# EAGLE library part BEAGLEBOARD (library GTA04b7)
BeagleBoard expansion connectors J3, J4 and J5
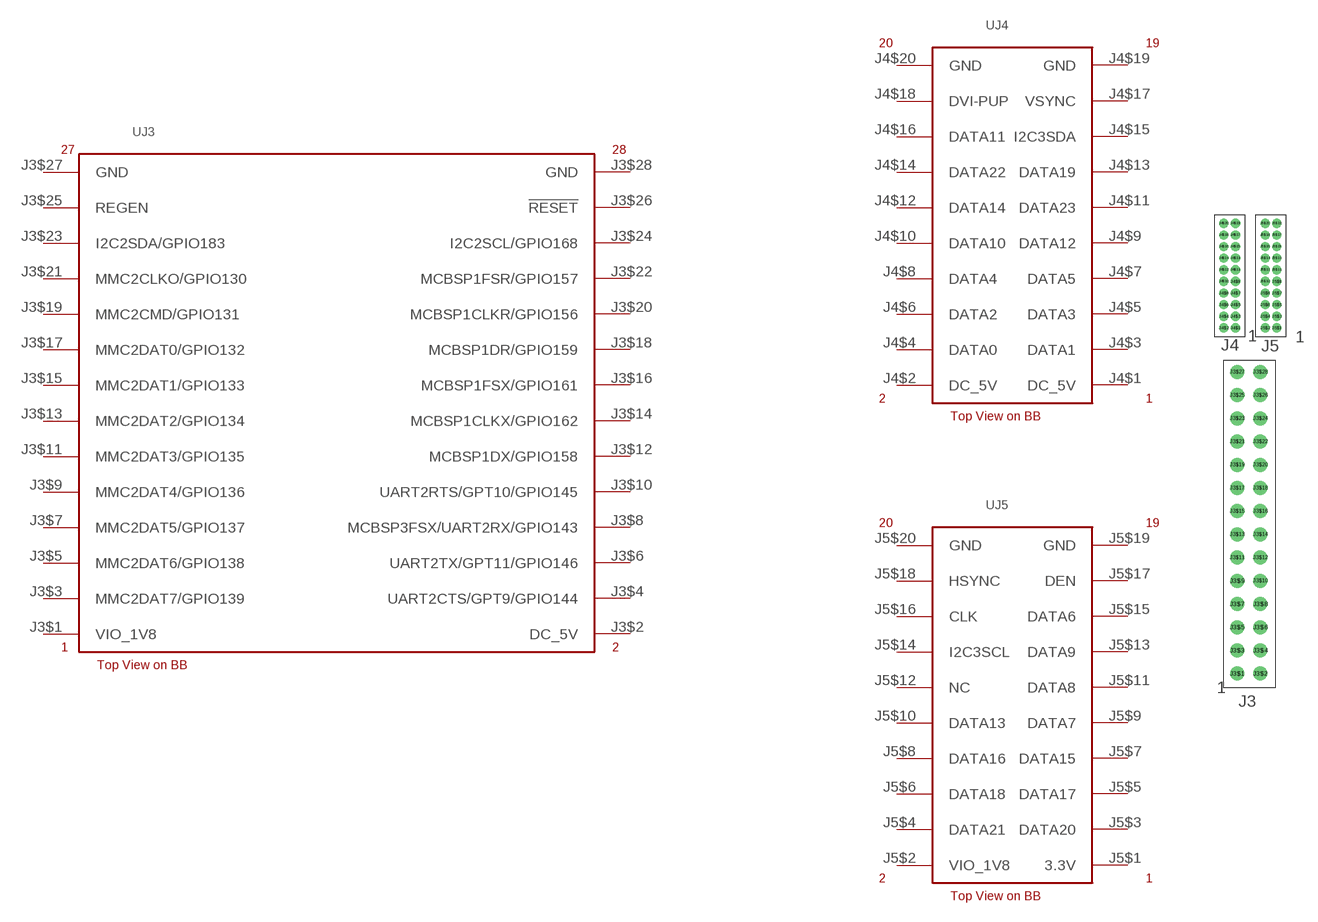
[diagram p1: symbol with the pads of BEAGLEBOARD; footprint BEAGLEBOARD]

Designator prefix -; gates J3=BB-J3 J4=BB-J4 J5=BB-J5

## BEAGLEBOARD  [BEAGLEBOARD]
J3$1  J3:VIO_1V8  pwr
J3$2  J3:DC_5V  pwr
J3$3  J3:MMC2DAT7/GPIO139
J3$4  J3:UART2CTS/GPT9/GPIO144
J3$5  J3:MMC2DAT6/GPIO138
J3$6  J3:UART2TX/GPT11/GPIO146
J3$7  J3:MMC2DAT5/GPIO137
J3$8  J3:MCBSP3FSX/UART2RX/GPIO143
J3$9  J3:MMC2DAT4/GPIO136
J3$10  J3:UART2RTS/GPT10/GPIO145
J3$11  J3:MMC2DAT3/GPIO135
J3$12  J3:MCBSP1DX/GPIO158
J3$13  J3:MMC2DAT2/GPIO134
J3$14  J3:MCBSP1CLKX/GPIO162
J3$15  J3:MMC2DAT1/GPIO133
J3$16  J3:MCBSP1FSX/GPIO161
J3$17  J3:MMC2DAT0/GPIO132
J3$18  J3:MCBSP1DR/GPIO159
J3$19  J3:MMC2CMD/GPIO131
J3$20  J3:MCBSP1CLKR/GPIO156
J3$21  J3:MMC2CLKO/GPIO130
J3$22  J3:MCBSP1FSR/GPIO157
J3$23  J3:I2C2SDA/GPIO183
J3$24  J3:I2C2SCL/GPIO168
J3$25  J3:REGEN  out
J3$26  J3:!RESET
J3$27  J3:GND  pwr
J3$28  J3:GND  pwr
J4$1  J4:DC_5V  pwr
J4$2  J4:DC_5V  pwr
J4$3  J4:DATA1
J4$4  J4:DATA0
J4$5  J4:DATA3
J4$6  J4:DATA2
J4$7  J4:DATA5
J4$8  J4:DATA4
J4$9  J4:DATA12
J4$10  J4:DATA10
J4$11  J4:DATA23
J4$12  J4:DATA14
J4$13  J4:DATA19
J4$14  J4:DATA22
J4$15  J4:I2C3SDA
J4$16  J4:DATA11
J4$17  J4:VSYNC
J4$18  J4:DVI-PUP
J4$19  J4:GND  pwr
J4$20  J4:GND  pwr
J5$1  J5:3.3V  pwr
J5$2  J5:VIO_1V8  pwr
J5$3  J5:DATA20
J5$4  J5:DATA21
J5$5  J5:DATA17
J5$6  J5:DATA18
J5$7  J5:DATA15
J5$8  J5:DATA16
J5$9  J5:DATA7
J5$10  J5:DATA13
J5$11  J5:DATA8
J5$12  J5:NC  nc
J5$13  J5:DATA9
J5$14  J5:I2C3SCL
J5$15  J5:DATA6
J5$16  J5:CLK
J5$17  J5:DEN
J5$18  J5:HSYNC
J5$19  J5:GND  pwr
J5$20  J5:GND  pwr

## Footprint BEAGLEBOARD (pad centres in mm)
J3,J4,J5 of BeagleBoard (top View)
drill 1.02: J3$1 1.45,-37.85; J3$2 3.99,-37.85; J3$3 1.45,-35.31; J3$4 3.99,-35.31; J3$5 1.45,-32.77; J3$6 3.99,-32.77; J3$7 1.45,-30.23; J3$8 3.99,-30.23; J3$9 1.45,-27.69; J3$10 3.99,-27.69; J3$11 1.45,-25.15; J3$12 3.99,-25.15; J3$13 1.45,-22.61; J3$14 3.99,-22.61; J3$15 1.45,-20.07; J3$16 3.99,-20.07; J3$17 1.45,-17.53; J3$18 3.99,-17.53; J3$19 1.45,-14.99; J3$20 3.99,-14.99; J3$21 1.45,-12.45; J3$22 3.99,-12.45; J3$23 1.45,-9.91; J3$24 3.99,-9.91; J3$25 1.45,-7.37; J3$26 3.99,-7.37; J3$27 1.45,-4.83; J3$28 3.99,-4.83
drill 0.5: J4$1 1.27,0; J4$2 0,0; J4$3 1.27,1.27; J4$4 0,1.27; J4$5 1.27,2.54; J4$6 0,2.54; J4$7 1.27,3.81; J4$8 0,3.81; J4$9 1.27,5.08; J4$10 0,5.08; J4$11 1.27,6.35; J4$12 0,6.35; J4$13 1.27,7.62; J4$14 0,7.62; J4$15 1.27,8.89; J4$16 0,8.89; J4$17 1.27,10.16; J4$18 0,10.16; J4$19 1.27,11.43; J4$20 0,11.43; J5$1 5.8,0; J5$2 4.53,0; J5$3 5.8,1.27; J5$4 4.53,1.27; J5$5 5.8,2.54; J5$6 4.53,2.54; J5$7 5.8,3.81; J5$8 4.53,3.81; J5$9 5.8,5.08; J5$10 4.53,5.08; J5$11 5.8,6.35; J5$12 4.53,6.35; J5$13 5.8,7.62; J5$14 4.53,7.62; J5$15 5.8,8.89; J5$16 4.53,8.89; J5$17 5.8,10.16; J5$18 4.53,10.16; J5$19 5.8,11.43; J5$20 4.53,11.43